# Altium schematic symbol library 3SMBJ5918B-TP.SchLib: 1 symbol
Pins are listed as number, name and electrical type; pins without a type are passive.

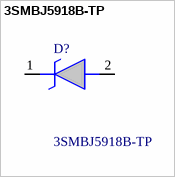
[diagram p0: symbol 3SMBJ5918B-TP]

## 3SMBJ5918B-TP
designator D?
Zener Diodes; Manufacturer_Name: MCC; Geometry.Height: 2.62mm; Manufacturer_Part_Number: 3SMBJ5918B-TP; Mouser Part Number: 833-3SMBJ5918B-TP; Mouser Price/Stock: https://www.mouser.com/Search/Refine.aspx?Keyword=833-3SMBJ5918B-TP; Arrow Part Number: 3SMBJ5918B-TP; Arrow Price/Stock: https://www.arrow.com/en/products/3smbj5918b-tp/micro-commercial-components; Datasheet Link: https://www.mccsemi.com/pdf/Products/3SMBJ5918B-3SMBJ5956B(SMB).pdf
footprint DIOM5336X262N
pins: 1 K, 2 A